# Altium schematic symbol library SCH - DIODES - DIODE.SCHLIB: 1 symbol
Pins are listed as number, name and electrical type; pins without a type are passive.

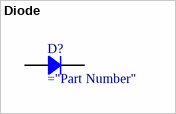
[diagram p0: symbol Diode]

## Diode
designator D?
Rectifier Diode
footprint SOD123F (SODFL, 2-Leads, Body 1.60x3.50mm, IPC Medium Density)
pins: 1, 2